# EAGLE library part PES_EXP_A (library inanna)
Expansion Header A for the PandaBoard ES
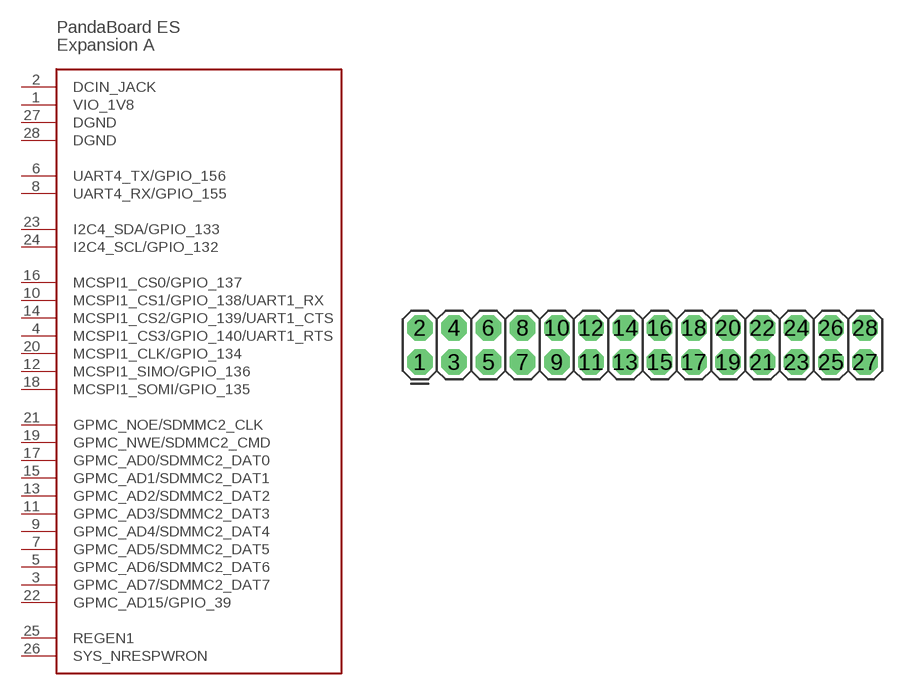
[diagram p0: symbol with the pads of 28-PIN_0.1"; footprint 28-PIN_0.1"]

Designator prefix -

## PES_EXP_A  [28-PIN_0.1"]
1  VIO_1V8
2  DCIN_JACK
3  GPMC_AD7/SDMMC2_DAT7
4  MCSPI1_CS3/GPIO_140/UART1_RTS
5  GPMC_AD6/SDMMC2_DAT6
6  UART4_TX/GPIO_156
7  GPMC_AD5/SDMMC2_DAT5
8  UART4_RX/GPIO_155
9  GPMC_AD4/SDMMC2_DAT4
10  MCSPI1_CS1/GPIO_138/UART1_RX
11  GPMC_AD3/SDMMC2_DAT3
12  MCSPI1_SIMO/GPIO_136
13  GPMC_AD2/SDMMC2_DAT2
14  MCSPI1_CS2/GPIO_139/UART1_CTS
15  GPMC_AD1/SDMMC2_DAT1
16  MCSPI1_CS0/GPIO_137
17  GPMC_AD0/SDMMC2_DAT0
18  MCSPI1_SOMI/GPIO_135
19  GPMC_NWE/SDMMC2_CMD
20  MCSPI1_CLK/GPIO_134
21  GPMC_NOE/SDMMC2_CLK
22  GPMC_AD15/GPIO_39
23  I2C4_SDA/GPIO_133
24  I2C4_SCL/GPIO_132
25  REGEN1
26  SYS_NRESPWRON
27  DGND
28  DGND

## Footprint 28-PIN_0.1" (pad centres in mm)
drill 1.016 pad 1.88 octagon: 1 -16.51,-1.27; 2 -16.51,1.27; 3 -13.97,-1.27; 4 -13.97,1.27; 5 -11.43,-1.27; 6 -11.43,1.27; 7 -8.89,-1.27; 8 -8.89,1.27; 9 -6.35,-1.27; 10 -6.35,1.27; 11 -3.81,-1.27; 12 -3.81,1.27; 13 -1.27,-1.27; 14 -1.27,1.27; 15 1.27,-1.27; 16 1.27,1.27; 17 3.81,-1.27; 18 3.81,1.27; 19 6.35,-1.27; 20 6.35,1.27; 21 8.89,-1.27; 22 8.89,1.27; 23 11.43,-1.27; 24 11.43,1.27; 25 13.97,-1.27; 26 13.97,1.27; 27 16.51,-1.27; 28 16.51,1.27